# Altium schematic symbol library ElectroMechanical.SchLib: 15 symbols
Pins are listed as number, name and electrical type; pins without a type are passive.

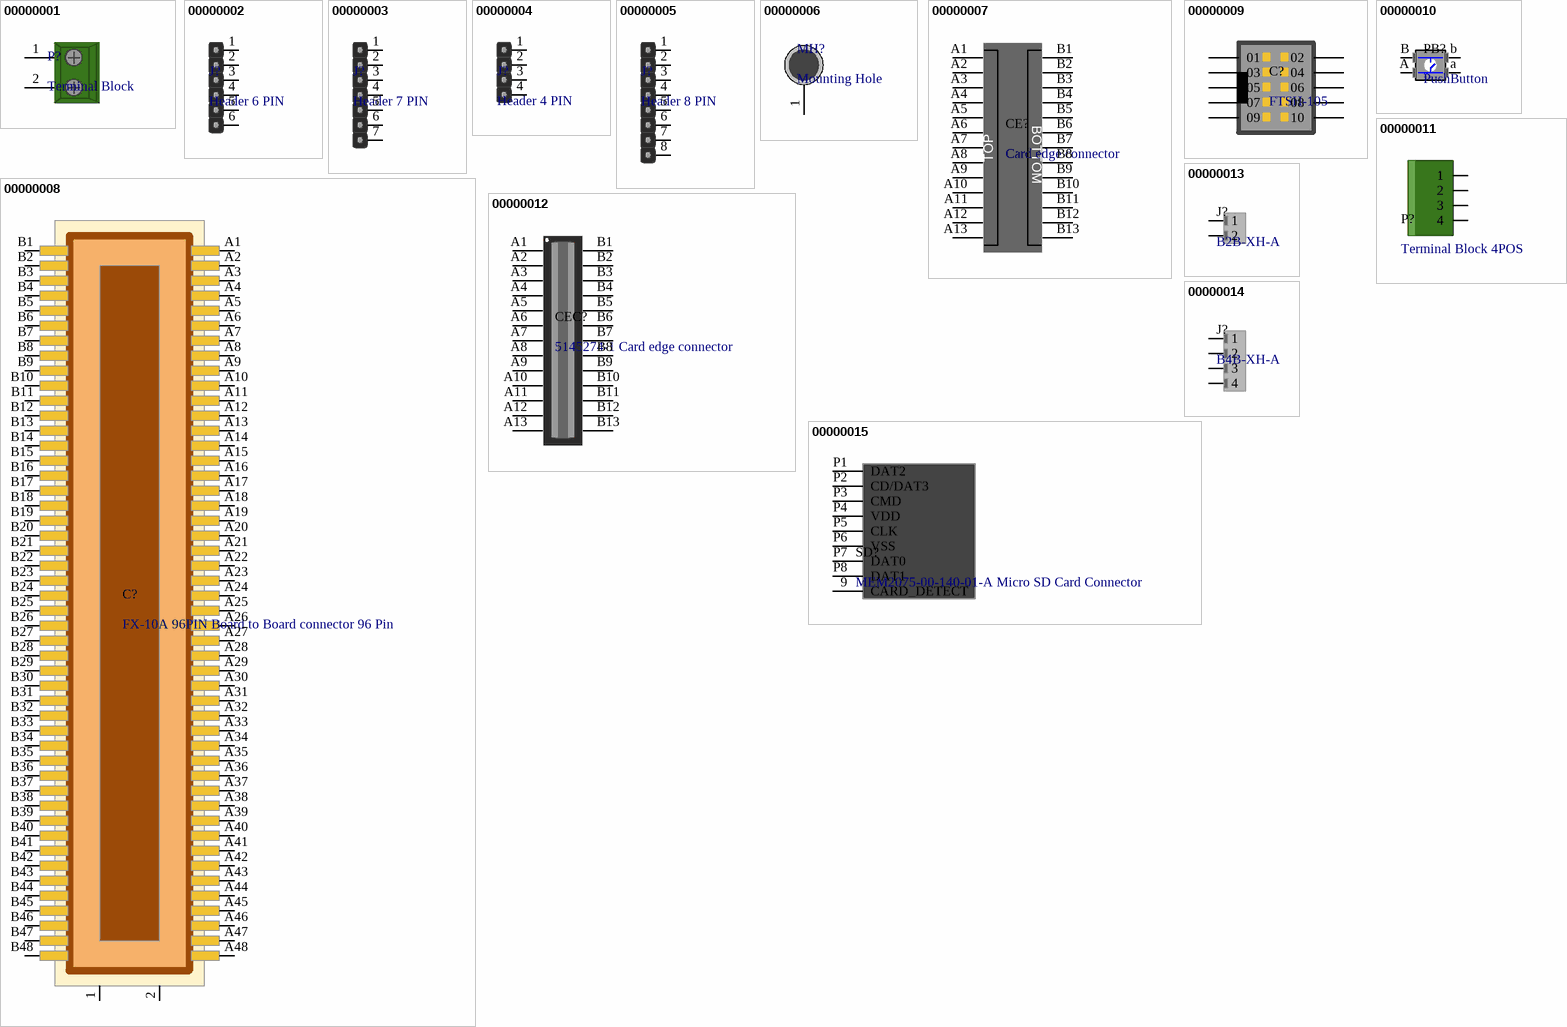
[diagram p0: symbols 00000001 to 00000015]

## 00000001
designator P?, comment Terminal Block
Terminal block 90 deg 5mm 2PIN; ComponentLink1Description: DigiKey; ComponentLink1URL: https://www.digikey.com/en/products/detail/adam-tech/EB20-02-C/9831508; DigiKey part number: 2057-EB20-02-C-ND
footprint TERM_BLOCK 5mm 2PIN
pins: 1 pin1, 2 pin2

## 00000002
designator J?, comment Header 6 PIN
footprint HEADER_6PIN
pins: 1, 2, 3, 4, 5, 6

## 00000003
designator J?, comment Header 7 PIN
footprint HEADER_7PIN
pins: 1, 2, 3, 4, 5, 6, 7

## 00000004
designator J?, comment Header 4 PIN
footprint HEADER_4PIN
pins: 1, 2, 3, 4

## 00000005
designator J?, comment Header 8 PIN
footprint HEADER_8PIN
pins: 1, 2, 3, 4, 5, 6, 7, 8

## 00000006
designator MH?, comment Mounting Hole
Mounting Hole 3mm
footprint HOLE-3mm
pins: 1

## 00000007
designator CE?, comment Card edge connector
Card edge connector 26 PINs
footprint Edge Connector
pins: A1, A2, A3, A4, A5, A6, A7, A8, A9, A10, A11, A12, A13, B1, B2, B3, B4, B5, B6, B7, B8, B9, B10, B11, B12, B13
text: BOTTOM; TOP

## 00000008
designator C?, comment FX-10A 96PIN Board to Board connector 96 Pin
CONN RCPT 96POS SMD GOLD; Digikey Part Number: H122463-ND; ComponentLink1Description: Digikey; ComponentLink1URL: https://www.digikey.com/en/products/detail/hirose-electric-co-ltd/FX10A-96S-SV/2041894
footprint Board To Board Connector
pins: 1, 2, A1 1, A2 2, A3 3, A4 4, A5 5, A6 6, A7 7, A8 8, A9 9, A10 10, A11 11, A12 12, A13 13, A14 14, A15 15, A16 16, A17 17, A18 18, A19 19, A20 20, A21 21, A22 22, A23 23, A24 24, A25 25, A26 26, A27 27, A28 28, A29 29, A30 30, A31 31, A32 32, A33 33, A34 34, A35 35, A36 36, A37 37, A38 38, A39 39, A40 40, A41 41, A42 42, A43 43, A44 44, A45 45, A46 46, A47 47, A48 48, B1 1, B2 2, B3 3, B4 4, B5 5, B6 6, B7 7, B8 8, B9 9, B10 10, B11 11, B12 12, B13 13, B14 14, B15 15, B16 16, B17 17, B18 18, B19 19, B20 20, B21 21, B22 22, B23 23, B24 24, B25 25, B26 26, B27 27, B28 28, B29 29, B30 30, B31 31, B32 32, B33 33, B34 34, B35 35, B36 36, B37 37, B38 38, B39 39, B40 40, B41 41, B42 42, B43 43, B44 44, B45 45, B46 46, B47 47, B48 48

## 00000009
designator C?, comment FTSH-105
FTSH-105-01-F-DV-K - CONN HEADER SMD 10POS 1.27MM; DigiKey Part Number: SAM8796-ND; MOUSER Part Number: 200-FTSH10501LDVKPTR; ComponentLink1Description: DigiKey Link; ComponentLink1URL: https://www.digikey.com/en/products/detail/samtec-inc/FTSH-105-01-F-DV-K/2649974; ComponentLink2Description: MOUSER Link; ComponentLink2URL: https://eu.mouser.com/ProductDetail/Samtec/FTSH-105-01-L-DV-K-P-TR?qs=fnpEE5GccuMUjCRgxv4voQ%3D%3D
footprint 10 Position SMT Connector
pins: 01, 02, 03, 04, 05, 06, 07, 08, 09, 10

## 00000010
designator PB?, comment PushButton
SWITCH TACTILE SPST-NO 0.02A 15V; DigiKey Part Number: P12937SCT-ND; ComponentLink1Description: DigiKey; ComponentLink1URL: https://www.digikey.com/en/products/detail/panasonic-electronic-components/EVQ-Q2F03W/762887
footprint Tactile Switch
pins: A, a, b, B

## 00000011
designator P?, comment Terminal Block 4POS
XY2500R-D 250V 12A 5.08mm; ComponentLink1Description: Mikroprinc; ComponentLink1URL: https://www.mikroprinc.com/sr/proizvod/konektor-za-klemu-4-pol-pod-uglom-90-print-rm-508-xy2500
footprint TERM_BLOCK_5.08mm 4PIN
pins: 1, 2, 3, 4

## 00000012
designator CEC?, comment 5145274-1 Card edge connector
26 Position Female Connector Non Specified - Dual Edge Gold 0.100" (2.54mm) Black; DigiKey Part Number: 5145274-1-ND; Mouser Part Number: 571-5145274-1; ComponentLink1Description: DigiKey; ComponentLink1URL: https://www.digikey.com/en/products/detail/te-connectivity-amp-connectors/5145274-1/1122000?s=N4IgTCBcDaIKwEYAscwHYkFoEgLoF8g; ComponentLink2Description: Mouser; ComponentLink2URL: https://eu.mouser.com/ProductDetail/TE-Connectivity/5145274-1?qs=2yE%2FVfFfKwpybi4w6sCxTA%3D%3D
footprint 5145274-1
pins: A1, A2, A3, A4, A5, A6, A7, A8, A9, A10, A11, A12, A13, B1, B2, B3, B4, B5, B6, B7, B8, B9, B10, B11, B12, B13

## 00000013
designator J?, comment B2B-XH-A
Connector Header Through Hole 2 position 0.098" (2.50mm); DigiKey Part Number: 455-B2B-XH-A-ND; ComponentLink1Description: DigiKey; ComponentLink1URL: https://www.digikey.com/en/products/detail/jst-sales-america-inc/B2B-XH-A/1651045
footprint JST_XH_2POS
pins: 1, 2

## 00000014
designator J?, comment B4B-XH-A
Connector Header Through Hole 4 position 0.098" (2.50mm); DigiKey Part Number: 455-B4B-XH-A-ND; ComponentLink1Description: DigiKey; ComponentLink1URL: https://www.digikey.com/en/products/detail/jst-sales-america-inc/B4B-XH-A/1651047
footprint JST_XH_4POS
pins: 1, 2, 3, 4

## 00000015
designator SD?, comment MEM2075-00-140-01-A Micro SD Card Connector
9 (8 + 1) Position Card Connector Secure Digital - microSD™ Surface Mount, Right Angle Gold; DigiKey Part Number: 2073-MEM2075-00-140-01-ACT-ND; Mouser Part Number: 640-MEM20750014001A; ComponentLink1Description: DigiKey; ComponentLink1URL: https://www.digikey.com/en/products/detail/gct/MEM2075-00-140-01-A/9859614?s=N4IgTCBcDaILIFE5gAwHYCsBaFKsEYAWPFfLAQRAF0BfIA; ComponentLink2Description: Mouser; ComponentLink2URL: https://eu.mouser.com/ProductDetail/GCT/MEM2075-00-140-01-A?qs=KUoIvG%2F9IlZvfWpeERlq3Q%3D%3D
pins: 9 CARD_DETECT, P1 DAT2, P2 CD/DAT3, P3 CMD, P4 VDD , P5 CLK , P6 VSS, P7 DAT0 , P8 DAT1